# EAGLE library part AL4 (library radiotubes)
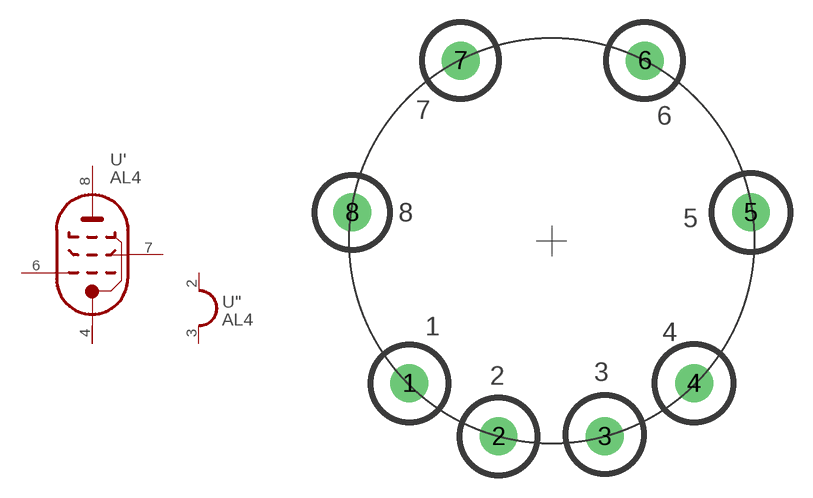
[diagram p138: symbol with the pads of P8; footprint P8]

Designator prefix -; gates '=EL84 "=HEATER_1

## AL4  [P8]
2  ":H1  pas
3  ":H2  pas
4  ':PK  pas
6  ':PG  pas
7  ':PSG  pas
8  ':PA  pas

## Footprint P8 (pad centres in mm)
drill 1.27 pad 2.54: 1 -9.525,-9.525; 2 -3.556,-13.081; 3 3.556,-13.081; 4 9.525,-9.525; 5 13.335,1.905; 6 6.223,12.065; 7 -6.096,12.065; 8 -13.335,1.905